# Altium schematic symbol library ic-comparator.SchLib: 6 symbols
Pins are listed as number, name and electrical type; pins without a type are passive.

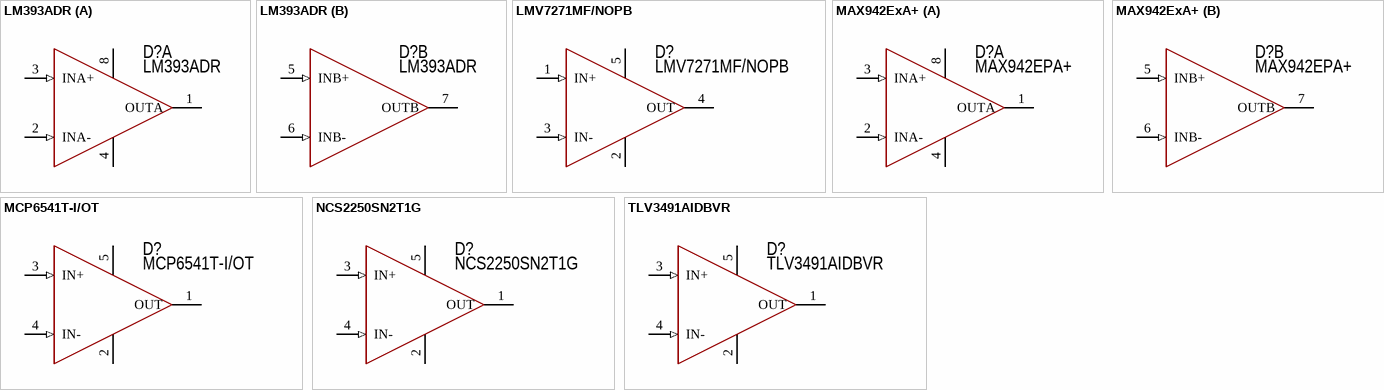
[diagram p0: symbols LM393ADR to TLV3491AIDBVR]

## LM393ADR
designator D?  PartNumber: LM393ADR
Low Power Low Offset Voltage Dual Comparator; Manufacturer: Maxim Integrated Products; ValueManufacturerPartNumber: IC comparator, Rail-to-Rail, 2...36 V, ±1...±18 V, 0…70°C, SOP-8; Supply: 2...36 V, ±1...±18 V; OutputType: Rail-to-Rail; Propagation Delay: 1.3u; HelpURL: https://www.chipdip.ru/product0/8014460924; Package: SOP-8; ComponentType: IC comparator; Temperature: 0…70°C
footprint 8-SOIC (pitch 1.27 mm)
part A pins: 1 OUTA (power), 2 INA- (in), 3 INA+ (in), 4 GND (power), 8 V+ (power)
part B pins: 5 INB+ (in), 6 INB- (in), 7 OUTB (power)

## LMV7271MF/NOPB
designator D?  PartNumber: LMV7271MF/NOPB
Comparator; Manufacturer: Texas Instruments; ValueManufacturerPartNumber: IC comparator, Rail-to-Rail, 1.8...5.5V, -40...+85°C, SOT23-5; Supply: 1.8...5.5V; OutputType: Rail-to-Rail; HelpURL: https://www.digikey.com/product-detail/en/texas-instruments/LMV7271MF-NOPB/LMV7271MF-NOPBCT-ND/566721; Package: SOT23-5; ComponentType: IC comparator; Temperature: -40...+85°C
footprint SOT23-5 (pitch 0.95 mm)
pins: 1 IN+ (in), 2 V- (power), 3 IN- (in), 4 OUT (power), 5 V+ (power)

## MAX942ExA+
designator D?  PartNumber: MAX942EPA+
Comparator; Manufacturer: Maxim Integrated Products; ValueManufacturerPartNumber: IC comparator, Rail-to-Rail, 2.7…6V, -40…85°C, DIP-8(P)/SOIC-8(S); Supply: 2.7…6V; OutputType: Rail-to-Rail; Propagation Delay: 80ns; HelpURL: https://www.chipdip.ru/search?searchtext=MAX942; Package: DIP-8(P)/SOIC-8(S); ComponentType: IC comparator; Temperature: -40…85°C
footprint 8-DIP
footprint 8-SOIC (pitch 1.27 mm)
part A pins: 1 OUTA (power), 2 INA- (in), 3 INA+ (in), 4 GND (power), 8 V+ (power)
part B pins: 5 INB+ (in), 6 INB- (in), 7 OUTB (power)

## MCP6541T-I/OT
designator D?  PartNumber: MCP6541T-I/OT
Comparator; Manufacturer: Microchip Technology; ValueManufacturerPartNumber: IC comparator, Rail-to-Rail, 1.6...5.5V, -40...+85°C, SOT23-5; Supply: 1.6...5.5V; OutputType: Rail-to-Rail; HelpURL: https://www.digikey.com/product-detail/en/microchip-technology/MCP6541T-I-OT/MCP6541T-I-OTCT-ND/3622387; Package: SOT23-5; ComponentType: IC comparator; Temperature: -40...+85°C
footprint SOT23-5 (pitch 0.95 mm)
pins: 1 OUT (power), 2 V- (power), 3 IN+ (in), 4 IN- (in), 5 V+ (power)

## NCS2250SN2T1G
designator D?  PartNumber: NCS2250SN2T1G
Comparator; Manufacturer: ON Semiconductor; ValueManufacturerPartNumber: IC comparator, Rail-to-Rail, 1.6...5.5V, -40...+125°C, SOT23-5; Supply: 1.6...5.5V; OutputType: Rail-to-Rail; HelpURL: https://www.digikey.com/product-detail/en/on-semiconductor/NCS2250SN2T1G/NCS2250SN2T1GOSCT-ND/9749438; Package: SOT23-5; ComponentType: IC comparator; Temperature: -40...+125°C
footprint SOT23-5 (pitch 0.95 mm)
pins: 1 OUT (power), 2 V- (power), 3 IN+ (in), 4 IN- (in), 5 V+ (power)

## TLV3491AIDBVR
designator D?  PartNumber: TLV3491AIDBVR
Comparator; Manufacturer: Texas Instruments; ValueManufacturerPartNumber: IC comparator, Rail-to-Rail, 1.6...5.5V, -40...+125°C, SOT23-5; Supply: 1.6...5.5V; OutputType: Rail-to-Rail; HelpURL: https://www.digikey.com/product-detail/en/texas-instruments/TLV3491AIDBVR/296-26825-1-ND/2255187; Package: SOT23-5; ComponentType: IC comparator; Temperature: -40...+125°C
footprint SOT23-5 (pitch 0.95 mm)
pins: 1 OUT (power), 2 V- (power), 3 IN+ (in), 4 IN- (in), 5 V+ (power)